# Altium footprint library Core_device.PcbLib: 10 footprints
Each footprint in its own frame and in the unit in brackets; x right, y up, seen from the top. Pads: shape width x height; smd on the part's side, far side on the other; paste and mask are expansions set on the pad; w line width, h text height; cw(c..) or ccw(c..) is an arc to the next point about the centre after c.
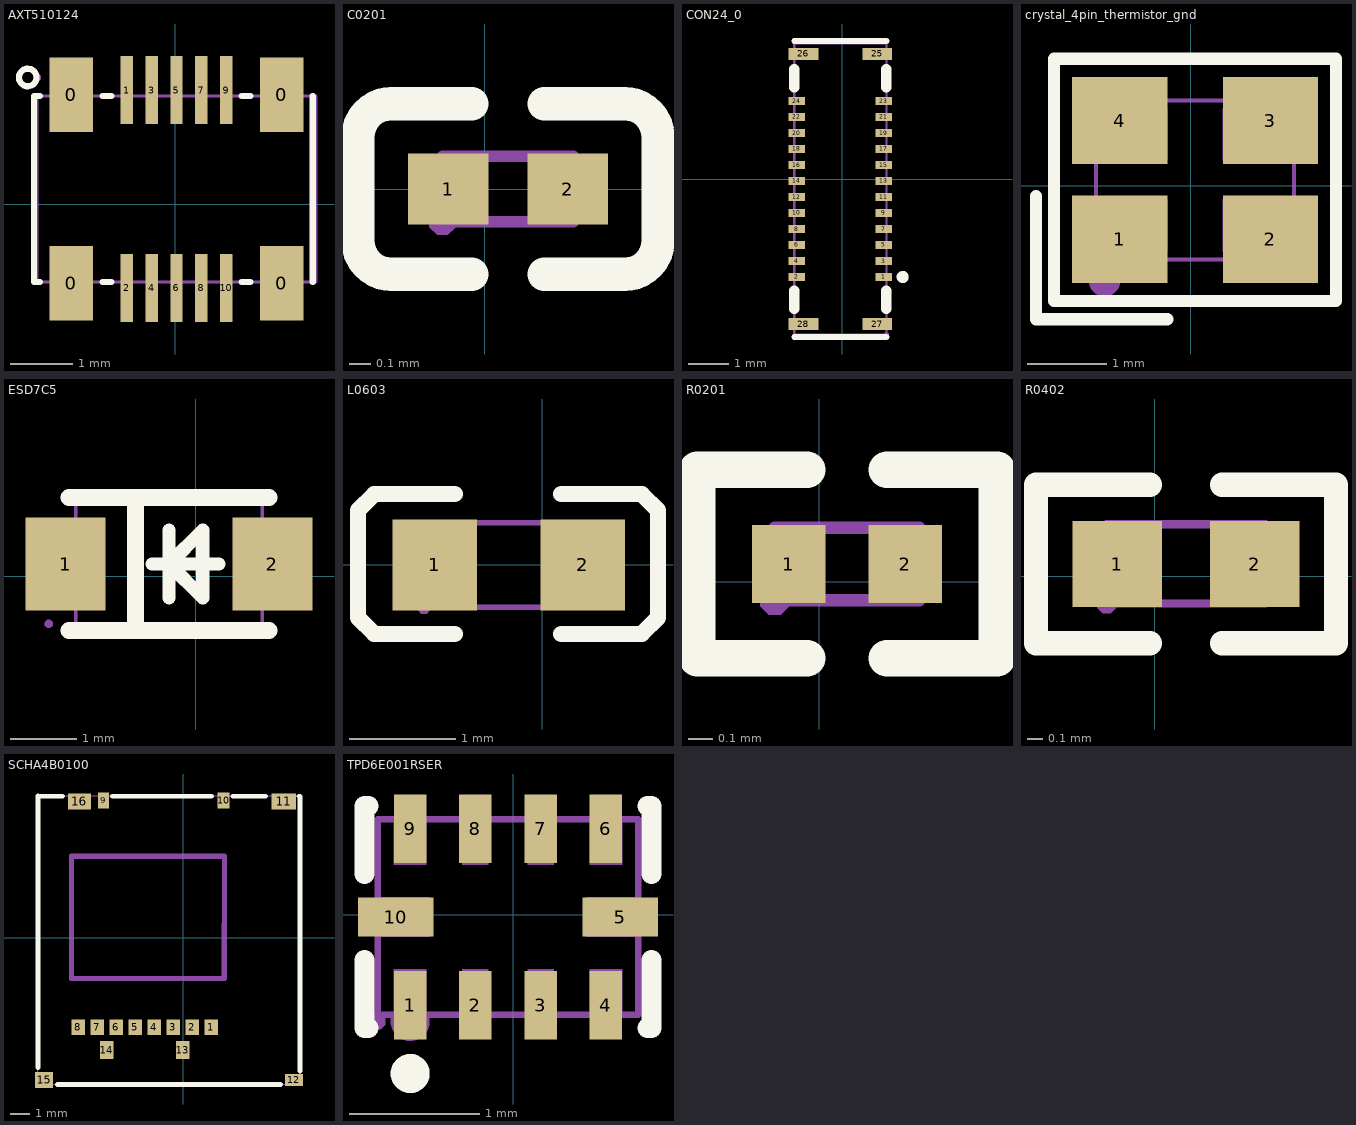
[diagram p0: the footprints below, top view; thin cyan lines are the x and y axes]

## AXT510124 [mm]
pads (14):
  rect 0.7x1.2 smd mask+0.05: 0(-1.679,-1.275) 0(-1.679,1.767) 0(1.721,-1.275) 0(1.721,1.767)
  rect 0.2x1.1 smd mask+0.05: 1(-0.778,1.842) 2(-0.778,-1.35) 3(-0.378,1.842) 4(-0.378,-1.35) 5(0.021,1.842) 6(0.021,-1.35) 7(0.422,1.842) 8(0.422,-1.35) 9(0.822,1.842) 10(0.822,-1.35)
Top Overlay:
  circle w0.1: c-2.379,2.046 r0.141
  lines w0.1: -2.183,-1.254 -2.279,-1.254 -2.279,1.746 -2.183,1.746 ; -1.174,-1.254 -1.033,-1.254 ; -1.079,1.746 -1.174,1.746 -1.033,1.746 ; 1.076,-1.254 1.217,-1.254 ; 1.076,1.746 1.217,1.746 ; 2.221,-1.254 2.221,1.746
Mechanical 15:
  region: 0.761,-0.934 0.881,-0.934 0.881,-1.554 0.761,-1.554
  region: 0.761,2.046 0.881,2.046 0.881,1.426 0.761,1.426
  region: 0.361,-0.934 0.481,-0.934 0.481,-1.554 0.361,-1.554
  region: 0.361,2.046 0.481,2.046 0.481,1.426 0.361,1.426
  region: -0.039,-0.934 0.081,-0.934 0.081,-1.554 -0.039,-1.554
  region: -0.039,2.046 0.081,2.046 0.081,1.426 -0.039,1.426
  region: -0.438,-0.934 -0.318,-0.934 -0.318,-1.554 -0.438,-1.554
  region: -0.438,2.046 -0.318,2.046 -0.318,1.426 -0.438,1.426
  region: -0.838,-0.934 -0.719,-0.934 -0.719,-1.554 -0.838,-1.554
  region: -0.838,2.046 -0.719,2.046 -0.719,1.426 -0.838,1.426
  region: -1.828,2.046 -1.528,2.046 -1.528,1.246 -1.828,1.246
  region: -1.828,-0.754 -1.528,-0.754 -1.528,-1.554 -1.828,-1.554
  region: 1.571,-0.754 1.871,-0.754 1.871,-1.554 1.571,-1.554
  region: 1.571,2.046 1.871,2.046 1.871,1.246 1.571,1.246
  region: -2.168,2.046 -2.168,2.071 -2.204,2.106 -2.253,2.106 -2.288,2.071 -2.288,2.046 -2.288,2.021 -2.253,1.986 -2.204,1.986 -2.168,2.021
  lines w0.051: -2.229,-1.254 2.271,-1.254 2.271,1.746 -2.229,1.746 -2.229,-1.254

## C0201 [mil]
pads (2):
  rect 14.51x12.76 smd mask+2: 1(-6.6,0) 2(15,0)
Top Overlay:
  lines w6: -2.34,-15.38 -16.85,-15.38 cw(c-16.85,-9.38) -22.85,-9.38 -22.85,9.38 cw(c-16.85,9.38) -16.85,15.38 -2.34,15.38 ; 10.74,-15.38 25.25,-15.38 ccw(c25.25,-9.38) 31.25,-9.38 31.25,9.38 ccw(c25.25,9.38) 25.25,15.38 10.74,15.38
Top Paste:
  region: 1.01,-5.43 1.01,5.43 0.07,6.38 -12.9,6.38 -13.85,5.43 -13.85,-5.43 -12.9,-6.38 0.07,-6.38
  region: 7.39,-5.43 7.39,5.43 8.33,6.38 21.3,6.38 22.25,5.43 22.25,-5.43 21.3,-6.38 8.33,-6.38
Mechanical 15:
  region: 16.01,-5.91 16.01,5.91 10.11,5.91 10.11,-5.91
  region: -7.61,-5.91 -7.61,5.91 -1.71,5.91 -1.71,-5.91
  region: -5.25,-5.91 -5.25,-4.93 -6.63,-3.55 -8.59,-3.55 -9.97,-4.93 -9.97,-5.91 -9.97,-6.89 -8.59,-8.27 -6.63,-8.27 -5.25,-6.89
  lines w2: -7.61,-5.91 16.01,-5.91 16.01,5.91 -7.61,5.91 -7.61,-5.91

## CON24_0 [mil]
pads (28):
  rect 16.5x7.9 smd mask+2: 1(40.8,-96) 2(-45,-96) 3(40.8,-80.3) 4(-45,-80.3) 5(40.8,-64.5) 6(-45,-64.5) 7(40.8,-48.8) 8(-45,-48.8) 9(40.8,-33) 10(-45,-33) 11(40.8,-17.3) 12(-45,-17.3) 13(40.8,-1.5) 14(-45,-1.5) 15(40.8,14.2) 16(-45,14.2) 17(40.8,30) 18(-45,30) 19(40.8,45.7) 20(-45,45.7) 21(40.8,61.5) 22(-45,61.5) 23(40.8,77.2) 24(-45,77.2)
  rect 29.5x11.8 smd mask+2: 25(34.3,123.5) 26(-38.5,123.5) 27(34.3,-142.3) 28(-38.5,-142.3)
Top Overlay:
  circle w5.9: c59.3,-96 r3
  lines w5.9: -47.4,-155.1 43.2,-155.1 ; -47.4,136.3 43.2,136.3
  lines w10: -47.4,-127.3 -47.4,-109.6 ; -47.4,90.8 -47.4,108.5 ; 43.2,-127.3 43.2,-109.6 ; 43.2,90.8 43.2,108.5
Mechanical 15:
  drawing of 33 lines, arcs and shapes, not listed

## crystal_4pin_thermistor_gnd [mm]
pads (4):
  rect 1.199x1.1 smd mask+0.051: 1(-0.895,-0.675) 2(1.005,-0.675) 3(1.005,0.824) 4(-0.895,0.824)
Top Overlay:
  lines w0.152: -1.951,-0.126 -1.951,-1.683 -0.295,-1.683 ; -1.723,-1.455 1.833,-1.455 1.833,1.604 -1.723,1.604 -1.723,-1.455
Mechanical 6:
  circle w0.201: c-1.088,-1.196 r0.099
Mechanical 15:
  region: 1.206,0.323 0.406,0.323 0.406,0.974 1.206,0.974
  region: -0.295,0.323 -1.095,0.323 -1.095,0.974 -0.295,0.974
  region: -0.295,-0.825 -1.095,-0.825 -1.095,-0.174 -0.295,-0.174
  region: 0.406,-0.174 1.206,-0.174 1.206,-0.825 0.406,-0.825
  region: -1.133,-0.926 -1.133,-0.901 -1.169,-0.865 -1.22,-0.865 -1.255,-0.901 -1.255,-0.926 -1.255,-0.952 -1.22,-0.987 -1.169,-0.987 -1.133,-0.952
  lines w0.051: -1.194,-0.926 1.305,-0.926 1.305,1.075 -1.194,1.075 -1.194,-0.926

## ESD7C5 [mm]
pads (2):
  rect 1.2x1.4 smd mask+0.051: 1(-1.949,0.187) 2(1.151,0.187)
Top Overlay:
  lines w0.2: -0.653,0.187 0.347,0.187 ; -0.399,-0.321 -0.399,0.695 ; -0.399,0.187 0.109,-0.321 0.109,0.695 -0.399,0.187
  lines w0.254: -1.899,-0.813 1.101,-0.813 ; -1.899,1.187 1.101,1.187 ; -0.905,-0.813 -0.905,1.187
Mechanical 6:
  region: -2.274,0.262 -1.574,0.262 -1.574,0.112 -2.324,0.112 -2.324,0.262
  region: 0.776,0.262 1.076,0.262 1.076,0.562 1.226,0.562 1.226,0.312 1.226,0.262 1.276,0.262 1.526,0.262 1.526,0.112 1.226,0.112 1.226,-0.188 1.076,-0.188 1.076,0.112 0.776,0.112
Mechanical 15:
  region: 0.704,0.612 1.404,0.612 1.404,-0.238 0.704,-0.238
  region: -2.202,0.612 -1.502,0.612 -1.502,-0.238 -2.202,-0.238
  region: -2.142,-0.713 -2.142,-0.688 -2.177,-0.653 -2.227,-0.653 -2.262,-0.688 -2.262,-0.713 -2.262,-0.738 -2.227,-0.773 -2.177,-0.773 -2.142,-0.738
  lines w0.051: -1.799,-0.713 1.001,-0.713 1.001,1.087 -1.799,1.087 -1.799,-0.713

## L0603 [mm]
pads (2):
  rect 0.8x0.864 smd mask+0.051: 1(-1.019,0) 2(0.381,0)
Top Overlay:
  lines w0.152: -0.829,-0.651 -1.591,-0.651 -1.743,-0.499 -1.743,0.517 -1.591,0.67 -0.829,0.67 ; 0.177,-0.651 0.939,-0.651 1.092,-0.499 1.092,0.517 0.939,0.67 0.177,0.67
Top Paste:
  region: -0.571,0.143 -0.571,-0.134 -0.845,-0.427 -1.348,-0.427 -1.412,-0.363 -1.412,0.373 -1.348,0.437 -0.845,0.437
  region: -0.055,0.154 -0.055,-0.122 0.219,-0.416 0.723,-0.416 0.787,-0.352 0.787,0.384 0.723,0.448 0.219,0.448
Mechanical 15:
  region: -1.059,-0.4 -1.059,-0.375 -1.094,-0.34 -1.144,-0.34 -1.179,-0.375 -1.179,-0.4 -1.179,-0.425 -1.144,-0.46 -1.094,-0.46 -1.059,-0.425
  region: 0.481,-0.4 0.181,-0.4 0.181,0.4 0.481,0.4
  region: -0.819,-0.4 -1.119,-0.4 -1.119,0.4 -0.819,0.4
  lines w0.051: -1.119,-0.4 0.481,-0.4 0.481,0.4 -1.119,0.4 -1.119,-0.4

## R0201 [mil]
pads (2):
  rect 11.93x12.76 smd mask+2: 1(-5.02,2.92) 2(14,2.92)
Top Overlay:
  lines w6: -2.05,-12.46 -19.99,-12.46 -19.99,18.3 -2.05,18.3 ; 11.03,-12.46 28.97,-12.46 28.97,18.3 11.03,18.3
Top Paste:
  region: 1.3,-2.51 1.3,8.35 0.36,9.3 -10.04,9.3 -10.99,8.35 -10.99,-2.51 -10.04,-3.46 0.36,-3.46
  region: 7.68,-2.51 7.68,8.35 8.62,9.3 19.02,9.3 19.97,8.35 19.97,-2.51 19.02,-3.46 8.62,-3.46
Mechanical 15:
  region: 16.3,-2.98 16.3,8.83 10.4,8.83 10.4,-2.98
  region: -7.32,-2.98 -7.32,8.83 -1.42,8.83 -1.42,-2.98
  region: -4.96,-2.98 -4.96,-2.01 -6.34,-0.62 -8.3,-0.62 -9.68,-2.01 -9.68,-2.98 -9.68,-3.96 -8.3,-5.35 -6.34,-5.35 -4.96,-3.96
  lines w2: -7.32,-2.98 16.3,-2.98 16.3,8.83 -7.32,8.83 -7.32,-2.98

## R0402 [mm]
pads (2):
  rect 0.566x0.54 smd mask+0.051: 1(-0.236,0.076) 2(0.63,0.076)
Top Overlay:
  lines w0.152: -0.029,-0.423 -0.747,-0.423 -0.747,0.575 -0.029,0.575 ; 0.423,-0.423 1.141,-0.423 1.141,0.575 0.423,0.575
Top Paste:
  region: 0.062,-0.154 0.062,0.306 0.022,0.346 -0.479,0.346 -0.519,0.306 -0.519,-0.154 -0.479,-0.194 0.022,-0.194
  region: 0.332,-0.154 0.332,0.306 0.372,0.346 0.873,0.346 0.913,0.306 0.913,-0.154 0.873,-0.194 0.372,-0.194
Mechanical 15:
  region: -0.052,0.326 -0.052,-0.174 -0.302,-0.174 -0.302,0.326
  region: 0.448,-0.174 0.448,0.326 0.698,0.326 0.698,-0.174
  region: -0.243,-0.174 -0.243,-0.149 -0.278,-0.114 -0.328,-0.114 -0.363,-0.149 -0.363,-0.174 -0.363,-0.199 -0.328,-0.234 -0.278,-0.234 -0.243,-0.199
  lines w0.051: -0.303,-0.174 0.697,-0.174 0.697,0.326 -0.303,0.326 -0.303,-0.174

## SCHA4B0100 [mm]
pads (16):
  rect 0.7x0.8 smd mask+0.051: 1(1.463,-4.714) 2(0.463,-4.714) 3(-0.537,-4.714) 4(-1.537,-4.714) 5(-2.537,-4.714) 6(-3.537,-4.714) 7(-4.537,-4.714) 8(-5.537,-4.714)
  rect 0.6x0.85 smd mask+0.051: 9(-4.212,7.236)
  rect 0.65x0.85 smd mask+0.051: 10(2.113,7.236)
  rect 1.3x0.85 smd mask+0.051: 11(5.277,7.186)
  rect 0.95x0.65 smd mask+0.051: 12(5.813,-7.489)
  rect 0.7x0.95 smd mask+0.051: 13(-0.038,-5.914) 14(-4.038,-5.914)
  rect 0.95x0.85 smd mask+0.051: 15(-7.337,-7.49)
  rect 1.2x0.85 smd mask+0.051: 16(-5.476,7.186)
Top Overlay:
  lines w0.254: -7.662,-6.834 -7.662,7.474 ; -7.662,7.454 -6.378,7.454 ; -6.631,-7.736 5.107,-7.736 ; -3.75,7.454 1.486,7.454 ; 2.599,7.454 4.326,7.454 ; 6.089,7.454 6.138,7.454 6.138,-7.026
Mechanical 6:
  region: 2.285,4.293 2.285,3.673 2.285,3.62 2.211,3.546 2.105,3.546 2.031,3.62 2.031,3.673 2.031,4.293 2.031,4.346 2.105,4.42 2.211,4.42 2.285,4.346
  region: 2.158,4.166 -5.775,4.166 -5.775,-2.02 2.021,-2.02 2.031,3.673 2.031,3.726 2.106,3.8 2.211,3.8 2.285,3.725 2.285,3.673 2.275,-2.147 2.275,-2.172 2.256,-2.219 2.22,-2.255 2.173,-2.274 2.148,-2.274 -5.902,-2.274 -5.927,-2.274 -5.974,-2.255 -6.01,-2.219 -6.029,-2.172 -6.029,-2.147 -6.029,4.293 -6.029,4.318 -6.01,4.365 -5.974,4.401 -5.927,4.42 -5.902,4.42 2.158,4.42 2.211,4.42 2.285,4.346 2.285,4.24 2.211,4.166
Mechanical 15:
  region: -3.888,-6.214 -4.188,-6.214 -4.188,-5.614 -3.888,-5.614
  region: 0.112,-5.614 0.112,-6.214 -0.188,-6.214 -0.188,-5.614
  region: -5.687,-4.414 -5.387,-4.414 -5.387,-5.014 -5.687,-5.014
  region: -4.687,-4.414 -4.387,-4.414 -4.387,-5.014 -4.687,-5.014
  region: -3.687,-4.414 -3.387,-4.414 -3.387,-5.014 -3.687,-5.014
  region: -2.687,-4.414 -2.387,-4.414 -2.387,-5.014 -2.687,-5.014
  region: -1.687,-4.414 -1.387,-4.414 -1.387,-5.014 -1.687,-5.014
  region: -0.687,-4.414 -0.387,-4.414 -0.387,-5.014 -0.687,-5.014
  region: 0.313,-4.414 0.613,-4.414 0.613,-5.014 0.313,-5.014
  region: 1.313,-4.414 1.613,-4.414 1.613,-5.014 1.313,-5.014
  region: 5.413,-7.239 6.213,-7.239 6.213,-7.739 5.413,-7.739
  region: -7.637,-7.24 -7.037,-7.24 -7.037,-7.74 -7.637,-7.74
  region: 1.937,7.461 2.287,7.461 2.287,7.011 1.937,7.011
  region: -4.387,7.461 -4.036,7.461 -4.036,7.011 -4.387,7.011
  region: -5.926,7.411 -5.026,7.411 -5.026,6.961 -5.926,6.961
  region: 4.827,7.411 5.727,7.411 5.727,6.961 4.827,6.961
  region: 6.273,-7.74 6.273,-7.715 6.238,-7.68 6.188,-7.68 6.153,-7.715 6.153,-7.74 6.153,-7.765 6.188,-7.8 6.238,-7.8 6.273,-7.765
  lines w0.051: -7.662,-7.726 6.138,-7.726 6.138,7.474 -7.662,7.474 -7.662,-7.726

## TPD6E001RSER [mm]
pads (10):
  rect 0.25x0.525 smd mask+0.051: 1(-0.789,-0.691) 2(-0.289,-0.691) 3(0.211,-0.691) 4(0.711,-0.691) 6(0.711,0.659) 7(0.211,0.659) 8(-0.289,0.659) 9(-0.789,0.659)
  rect 0.58x0.3 smd mask+0.051: 5(0.821,-0.016) 10(-0.899,-0.016)
Top Overlay:
  circle w0.15: c-0.789,-1.216 r0.075
  lines w0.152: -1.139,-0.346 -1.139,-0.866 -1.109,-0.866 ; -1.139,0.314 -1.139,0.834 -1.109,0.834 ; 1.031,-0.866 1.061,-0.866 1.061,-0.346 ; 1.031,0.834 1.061,0.834 1.061,0.314
Mechanical 6:
  circle w0.15: c-0.789,-0.816 r0.075
Mechanical 15:
  region: -1.039,0.134 -0.639,0.134 -0.639,-0.166 -1.039,-0.166
  region: 0.561,0.134 0.961,0.134 0.961,-0.166 0.561,-0.166
  region: 0.586,0.734 0.836,0.734 0.836,0.384 0.586,0.384
  region: -0.914,0.734 -0.664,0.734 -0.664,0.384 -0.914,0.384
  region: -0.914,-0.416 -0.664,-0.416 -0.664,-0.766 -0.914,-0.766
  region: 0.586,-0.416 0.836,-0.416 0.836,-0.766 0.586,-0.766
  region: -0.389,-0.416 -0.189,-0.416 -0.189,-0.766 -0.389,-0.766
  region: 0.111,-0.416 0.311,-0.416 0.311,-0.766 0.111,-0.766
  region: 0.111,0.734 0.311,0.734 0.311,0.384 0.111,0.384
  region: -0.389,0.734 -0.189,0.734 -0.189,0.384 -0.389,0.384
  region: -0.979,-0.816 -0.979,-0.791 -1.014,-0.756 -1.064,-0.756 -1.099,-0.791 -1.099,-0.816 -1.099,-0.841 -1.064,-0.876 -1.014,-0.876 -0.979,-0.841
  lines w0.051: -1.039,-0.766 0.961,-0.766 0.961,0.734 -1.039,0.734 -1.039,-0.766